# EAGLE library part WE-FB_EFD20_SCH3 (library WE-FB)
WE-FB Flyback Transformer suitable for LT3573/ LT3574/ LT3575/ LT3748 Characteristics Easy design-in solution Less external components needed Small board space Low cost No optocoupler needed! Long term reliability voltage control No aging Same external parts for different output voltages Easy design of custom power supply due to standard circuit and change of transformers and two components for feedback loop Isolation voltage up to 2.5 kV Applications Isolated power design Sensor interfaces Isolated telecom converters Power over Ethernet <https://www.we-online.com/catalog/media/o35283v209%20Family_we-fb_LT%20Kits_gruppe.jpg> Details see: www.we-online.com/catalog/WE-FB <www.we-online.com/catalog/WE-FB/?utm_source=eagle_model&utm_medium=description_link&utm_campaign=eisos_eagle> Updated by Ella Wu 2022-07-21 2022 Wurth Elektronik
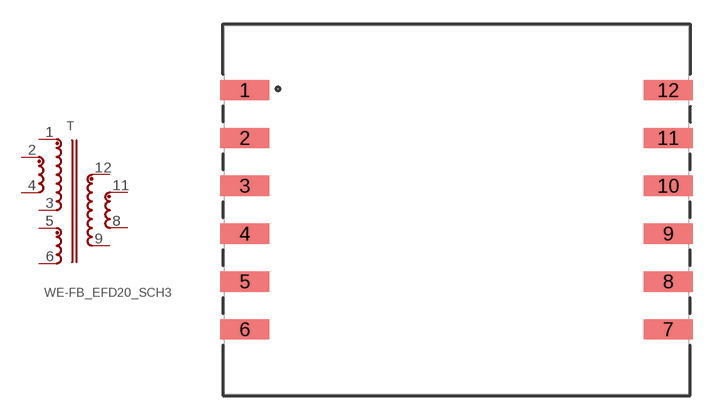
[diagram p2: symbol with the pads of WE-FB_EFD20; footprint WE-FB_EFD20]

Designator prefix T

## WE-FB_EFD20_SCH3_750311599 (DATASHEET-URL: https://www.we-online.com/redexpert/spec/750311599?ae; IOUT: 2A; ISAT: 12A; L: 8uH; LSMIN: 0.5uH; MOUNT: SMT; N: 3:2; PART-NUMBER: 750311599; VALUE: 750311599; VIN: 20-48V(DC); VOUT: 15V; VT: 1500V(AC)), WE-FB_EFD20_SCH3_750311600 (DATASHEET-URL: https://www.we-online.com/redexpert/spec/750311600?ae; IOUT: 2A; ISAT: 11A; L: 12uH; LSMIN: 0.5uH; MOUNT: SMT; N: 2:1; PART-NUMBER: 750311600; VALUE: 750311600; VIN: 30-75V(DC); VOUT: 15V; VT: 1500V(AC)), WE-FB_EFD20_SCH3_750311604 (DATASHEET-URL: https://www.we-online.com/redexpert/spec/750311604?ae; IOUT: 1.3A; ISAT: 9.5A; L: 8uH; LSMIN: 0.3uH; MOUNT: SMT; N: 1:1; PART-NUMBER: 750311604; VALUE: 750311604; VIN: 20-48V(DC); VOUT: 24V; VT: 1500V(AC)), WE-FB_EFD20_SCH3_750311608 (DATASHEET-URL: https://www.we-online.com/redexpert/spec/750311608?ae; IOUT: 1.3A; ISAT: 9A; L: 12uH; LSMIN: 0.5uH; MOUNT: SMT; N: 3:2; PART-NUMBER: 750311608; VALUE: 750311608; VIN: 30-75V(DC); VOUT: 24V; VT: 1500V(AC))  [WE-FB_EFD20]
1  1  pas
2  2  pas
3  4  pas
4  3  pas
5  5  pas
6  6  pas
8  8  pas
9  7  pas
11  9  pas
12  10  pas

## Footprint WE-FB_EFD20 (pad centres in mm)
WE-FB Flyback Transformer suitable for LT3573/ LT3574/ LT3575/ LT3748 Size: EFD20 SMD12 Pin
smd 3.05 x 1.27: 1 -13.26,7.5; 2 -13.26,4.5; 3 -13.26,1.5; 4 -13.26,-1.5; 5 -13.26,-4.5; 6 -13.26,-7.5; 7 13.26,-7.5; 8 13.26,-4.5; 9 13.26,-1.5; 10 13.26,1.5; 11 13.26,4.5; 12 13.26,7.5